# EAGLE library part NOA1212 (library lightmeter)
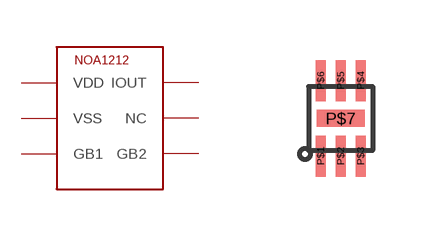
[diagram p7: symbol with the pads of CUDFN6; footprint CUDFN6]

Designator prefix -

## NOA1212  [CUDFN6]
P$1  VDD
P$2  VSS
P$3  GB1
P$4  GB2
P$5  NC
P$6  IOUT
P$7  VSS

## Footprint CUDFN6 (pad centres in mm)
smd 0.25 x 1.028: P$1 -0.5,-0.944; P$2 0,-0.944; P$3 0.5,-0.944; P$4 0.5,0.944; P$5 0,0.944; P$6 -0.5,0.944
smd 1.2 x 0.432: P$7 0,0